# Altium schematic symbol library modules.SchLib: 3 symbols
Pins are listed as number, name and electrical type; pins without a type are passive.

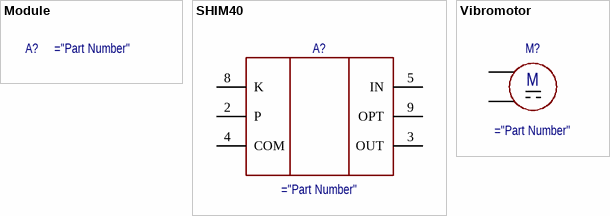
[diagram p0: symbols Module to Vibromotor]

## Module
designator A?

## SHIM40
designator A?
Плата ШИМ40
pins: 2 P, 3 OUT, 4 COM, 5 IN, 8 K, 9 OPT

## Vibromotor
designator M?
Vibromotor
pins: 1, 3
text: M